# EAGLE library part A-244CX (library paralight)
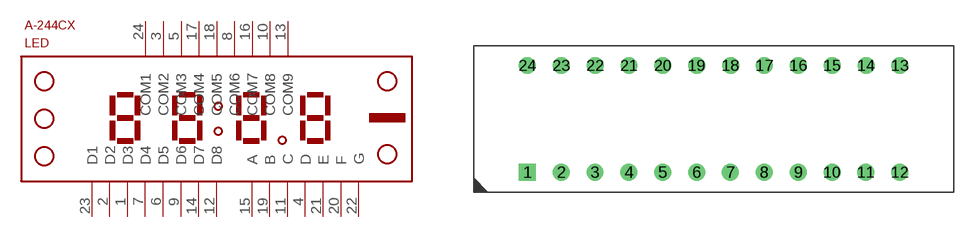
[diagram p0: symbol with the pads of C/A-244CX; footprint C/A-244CX]

Designator prefix LED

## A-244CX  [C/A-244CX]
1  D3
2  D2
3  COM2
4  D
5  COM3
6  D5
7  D4
8  COM6
9  D6
10  COM8
11  C
12  D8
13  COM9
14  D7
15  A
16  COM7
17  COM4
18  COM5
19  B
20  F
21  E
22  G
23  D1
24  COM1

## Footprint C/A-244CX (pad centres in mm)
drill 0.6 pad 1.27 square: 1 -13.98,-4.205
drill 0.6 pad 1.27: 2 -11.44,-4.205; 3 -8.9,-4.205; 4 -6.36,-4.205; 5 -3.82,-4.205; 6 -1.28,-4.205; 7 1.26,-4.205; 8 3.8,-4.205; 9 6.34,-4.205; 10 8.88,-4.205; 11 11.42,-4.205; 12 13.96,-4.205; 13 13.97,3.805; 14 11.43,3.805; 15 8.89,3.805; 16 6.35,3.805; 17 3.81,3.805; 18 1.27,3.805; 19 -1.27,3.805; 20 -3.81,3.805; 21 -6.35,3.805; 22 -8.89,3.805; 23 -11.43,3.805; 24 -13.97,3.805